# Altium footprint library GTJTLPS113KKLN251150R33.PcbLib: 1 footprints
Each footprint in its own frame and in the unit in brackets; x right, y up, seen from the top. Pads: shape width x height; smd on the part's side, far side on the other; paste and mask are expansions set on the pad; w line width, h text height; cw(c..) or ccw(c..) is an arc to the next point about the centre after c.
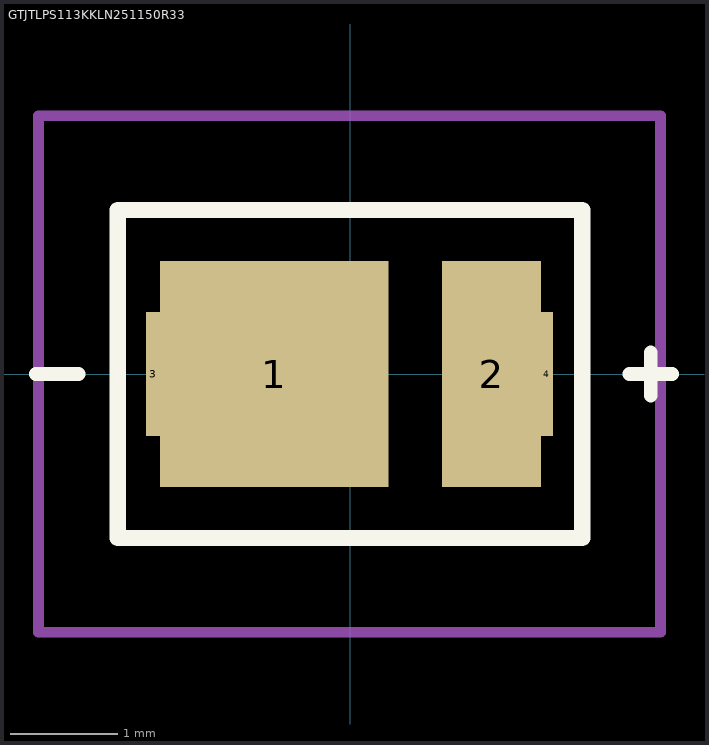
[diagram p0: the footprint, top view; thin cyan lines are the x and y axes]

## GTJTLPS113KKLN251150R33 [mm]
pads (4):
  rect 2.12x2.1 smd: 1(-0.705,0)
  rect 0.92x2.1 smd: 2(1.315,0)
  rect 0.13x1.15 smd: 3(-1.83,0)
  rect 0.11x1.15 smd: 4(1.83,0)
Top Overlay:
  lines w0.127: -2.921,0 -2.521,0 ; 2.594,0 2.994,0 ; 2.794,-0.2 2.794,0.2
  lines w0.152: -2.159,-1.524 2.159,-1.524 2.159,1.524 -2.159,1.524 -2.159,-1.524
Mechanical 20:
  lines w0.1: -2.895,-2.4 -2.895,2.4 2.885,2.4 2.885,-2.4 -2.895,-2.4
3D body "GT_JTLPS1.13-KKLN-25-1.stp": height 0.7, standoff 0, extent -1.75,-1.4 1.75,1.4